# EAGLE library part PIC24FJZZZGB106 (library microchip_pic24)
PIC24FJXXXGB106
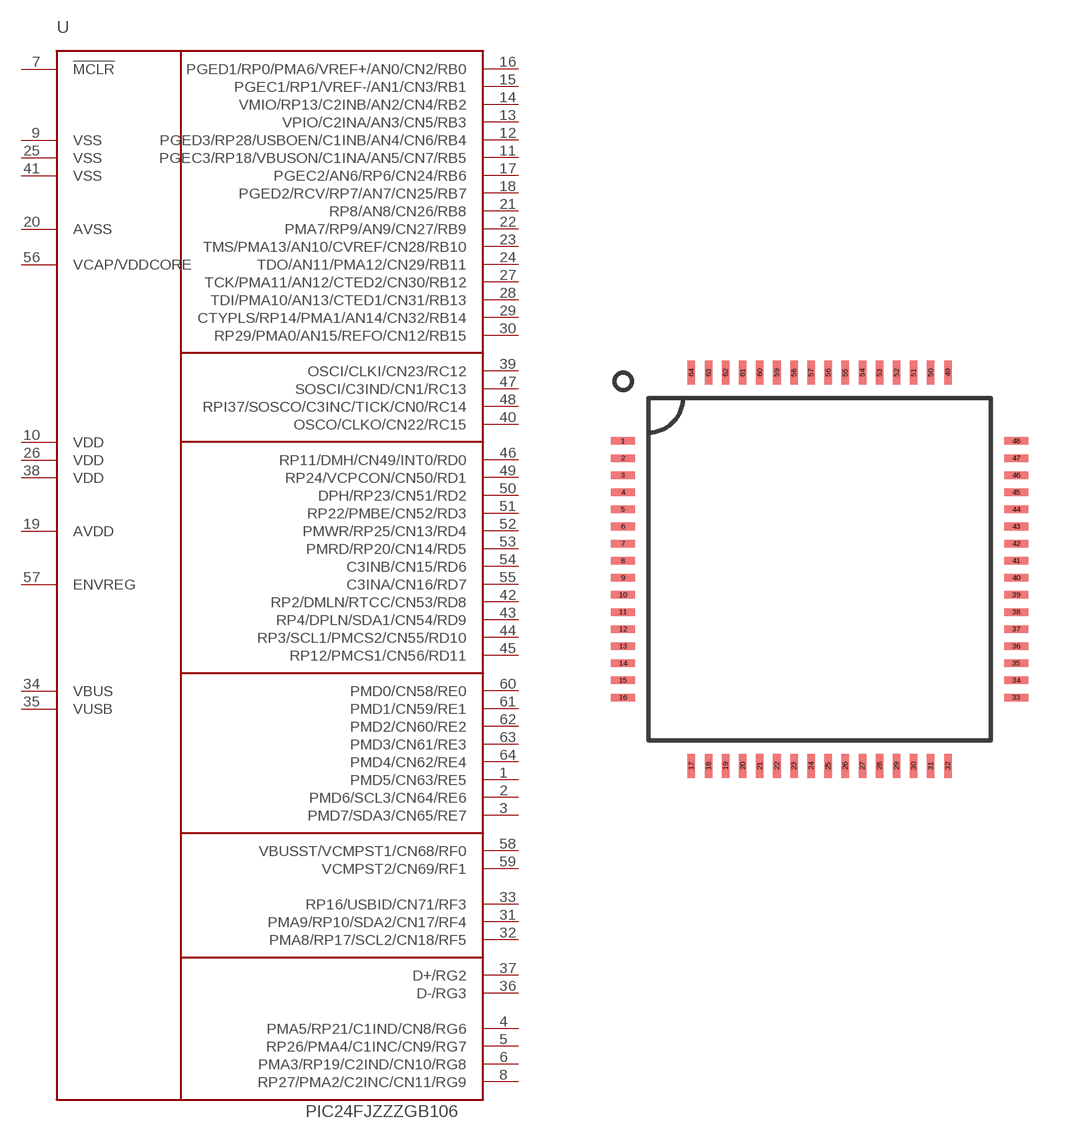
[diagram p1: symbol with the pads of TQFP-64-PT-0.5MM; footprint TQFP-64-PT-0.5MM]

Designator prefix -

## PIC24FJZZZGB106  [TQFP-64-PT-0.5MM]
1  PMD5/CN63/RE5
2  PMD6/SCL3/CN64/RE6
3  PMD7/SDA3/CN65/RE7
4  PMA5/RP21/C1IND/CN8/RG6
5  RP26/PMA4/C1INC/CN9/RG7
6  PMA3/RP19/C2IND/CN10/RG8
7  !MCLR!
8  RP27/PMA2/C2INC/CN11/RG9
9  VSS
10  VDD
11  PGEC3/RP18/VBUSON/C1INA/AN5/CN7/RB5
12  PGED3/RP28/USBOEN/C1INB/AN4/CN6/RB4
13  VPIO/C2INA/AN3/CN5/RB3
14  VMIO/RP13/C2INB/AN2/CN4/RB2
15  PGEC1/RP1/VREF-/AN1/CN3/RB1
16  PGED1/RP0/PMA6/VREF+/AN0/CN2/RB0
17  PGEC2/AN6/RP6/CN24/RB6
18  PGED2/RCV/RP7/AN7/CN25/RB7
19  AVDD
20  AVSS
21  RP8/AN8/CN26/RB8
22  PMA7/RP9/AN9/CN27/RB9
23  TMS/PMA13/AN10/CVREF/CN28/RB10
24  TDO/AN11/PMA12/CN29/RB11
25  VSS
26  VDD
27  TCK/PMA11/AN12/CTED2/CN30/RB12
28  TDI/PMA10/AN13/CTED1/CN31/RB13
29  CTYPLS/RP14/PMA1/AN14/CN32/RB14
30  RP29/PMA0/AN15/REFO/CN12/RB15
31  PMA9/RP10/SDA2/CN17/RF4
32  PMA8/RP17/SCL2/CN18/RF5
33  RP16/USBID/CN71/RF3
34  VBUS
35  VUSB
36  D-/RG3
37  D+/RG2
38  VDD
39  OSCI/CLKI/CN23/RC12
40  OSCO/CLKO/CN22/RC15
41  VSS
42  RP2/DMLN/RTCC/CN53/RD8
43  RP4/DPLN/SDA1/CN54/RD9
44  RP3/SCL1/PMCS2/CN55/RD10
45  RP12/PMCS1/CN56/RD11
46  RP11/DMH/CN49/INT0/RD0
47  SOSCI/C3IND/CN1/RC13
48  RPI37/SOSCO/C3INC/TICK/CN0/RC14
49  RP24/VCPCON/CN50/RD1
50  DPH/RP23/CN51/RD2
51  RP22/PMBE/CN52/RD3
52  PMWR/RP25/CN13/RD4
53  PMRD/RP20/CN14/RD5
54  C3INB/CN15/RD6
55  C3INA/CN16/RD7
56  VCAP/VDDCORE
57  ENVREG
58  VBUSST/VCMPST1/CN68/RF0
59  VCMPST2/CN69/RF1
60  PMD0/CN58/RE0
61  PMD1/CN59/RE1
62  PMD2/CN60/RE2
63  PMD3/CN61/RE3
64  PMD4/CN62/RE4

## Footprint TQFP-64-PT-0.5MM (pad centres in mm)
TQFP TQFP 64 PT 0.5mm
smd 0.7 x 0.22: 1 -5.75,3.75; 2 -5.75,3.25; 3 -5.75,2.75; 4 -5.75,2.25; 5 -5.75,1.75; 6 -5.75,1.25; 7 -5.75,0.75; 8 -5.75,0.25; 9 -5.75,-0.25; 10 -5.75,-0.75; 11 -5.75,-1.25; 12 -5.75,-1.75; 13 -5.75,-2.25; 14 -5.75,-2.75; 15 -5.75,-3.25; 16 -5.75,-3.75; 33 5.75,-3.75; 34 5.75,-3.25; 35 5.75,-2.75; 36 5.75,-2.25; 37 5.75,-1.75; 38 5.75,-1.25; 39 5.75,-0.75; 40 5.75,-0.25; 41 5.75,0.25; 42 5.75,0.75; 43 5.75,1.25; 44 5.75,1.75; 45 5.75,2.25; 46 5.75,2.75; 47 5.75,3.25; 48 5.75,3.75
smd 0.22 x 0.7: 17 -3.75,-5.75; 18 -3.25,-5.75; 19 -2.75,-5.75; 20 -2.25,-5.75; 21 -1.75,-5.75; 22 -1.25,-5.75; 23 -0.75,-5.75; 24 -0.25,-5.75; 25 0.25,-5.75; 26 0.75,-5.75; 27 1.25,-5.75; 28 1.75,-5.75; 29 2.25,-5.75; 30 2.75,-5.75; 31 3.25,-5.75; 32 3.75,-5.75; 49 3.75,5.75; 50 3.25,5.75; 51 2.75,5.75; 52 2.25,5.75; 53 1.75,5.75; 54 1.25,5.75; 55 0.75,5.75; 56 0.25,5.75; 57 -0.25,5.75; 58 -0.75,5.75; 59 -1.25,5.75; 60 -1.75,5.75; 61 -2.25,5.75; 62 -2.75,5.75; 63 -3.25,5.75; 64 -3.75,5.75